# Altium schematic symbol library Schlib1.SchLib: 25 symbols
Pins are listed as number, name and electrical type; pins without a type are passive.

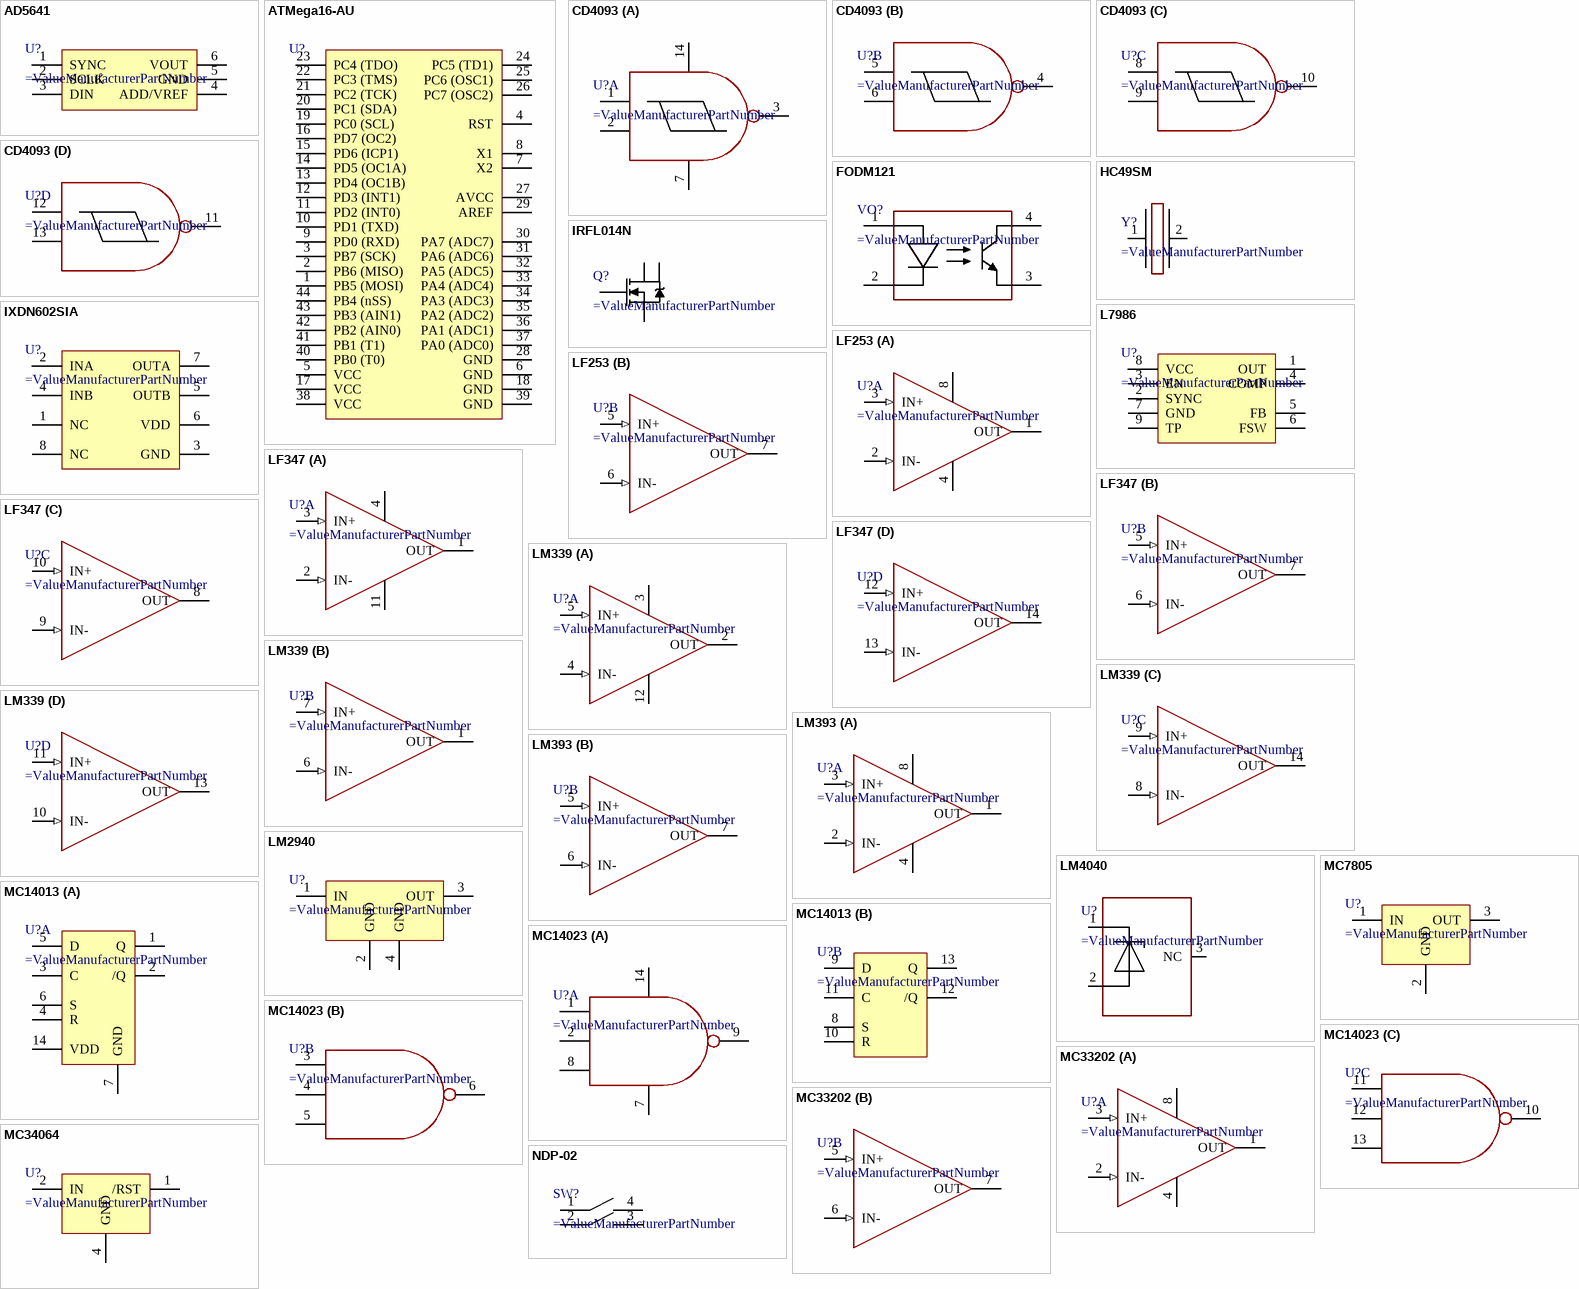
[diagram p0: symbols AD5641 to NDP-02]

## AD5641
designator U?
ValueManufacturerPartNumber: AD5641, SC70-6; PartNumber: AD5641; Package: SC70-6
footprint SC70-6 (SOT23, 6-Leads, Body 2,00x2,10mm, Pitch 0,65mm, IPC High Density)
pins: 1 SYNC, 2 SCLK, 3 DIN, 4 ADD/VREF, 5 GND, 6 VOUT

## ATMega16-AU
designator U?
ValueManufacturerPartNumber: ATMega16-AU, TQFP-44; PartNumber: ATMega16-AU; Package: TQFP-44
footprint QFP80P1200X1200X120-44N
pins: 1 PB5 (MOSI), 2 PB6 (MISO), 3 PB7 (SCK), 4 RST, 5 VCC, 6 GND, 7 X2, 8 X1, 9 PD0 (RXD), 10 PD1 (TXD), 11 PD2 (INT0), 12 PD3 (INT1), 13 PD4 (OC1B), 14 PD5 (OC1A), 15 PD6 (ICP1), 16 PD7 (OC2), 17 VCC, 18 GND, 19 PC0 (SCL), 20 PC1 (SDA), 21 PC2 (TCK), 22 PC3 (TMS), 23 PC4 (TDO), 24 PC5 (TD1), 25 PC6 (OSC1), 26 PC7 (OSC2), 27 AVCC, 28 GND, 29 AREF, 30 PA7 (ADC7), 31 PA6 (ADC6), 32 PA5 (ADC5), 33 PA4 (ADC4), 34 PA3 (ADC3), 35 PA2 (ADC2), 36 PA1 (ADC1), 37 PA0 (ADC0), 38 VCC, 39 GND, 40 PB0 (T0), 41 PB1 (T1), 42 PB2 (AIN0), 43 PB3 (AIN1), 44 PB4 (nSS)

## CD4093
designator U?
ValueManufacturerPartNumber: CD4093, SOIC-14; PartNumber: CD4093; Package: SOIC-14
footprint 14-SOIC (pitch 1.27 mm)
part A pins: 1, 2, 3, 7, 14
part B pins: 4, 5, 6
part C pins: 8, 9, 10
part D pins: 11, 12, 13

## FODM121
designator VO?
footprint FODM121 (SOP, 4-Leads, Body 3,85x4,40mm, Pitch 2,54mm, IPC High Density)
pins: 1 A, 2 C, 3 E, 4 C

## HC49SM
designator Y?
PartNumber: HC49SM-16.000MHZ-20PF; ValueManufacturerPartNumber: HC49SM-16.000MHZ-20PF, HC49SM; Package: HC49SM
footprint HC49SM
pins: 1, 2

## IRFL014N
designator Q?
footprint SOT223 (SOT223, 4-Leads, Body 6,50x7,00mm (avg), Pitch 2,30mm, IPC Medium Density)
pins: 1 G, 2 D, 3 S, 4 D

## IXDN602SIA
designator U?
PartNumber: IXDN602SIA; ValueManufacturerPartNumber: IXDN602SIA, SOIC-8; Package: SOIC-8
footprint 8-SOIC (pitch 1.27 mm)
pins: 1 NC, 2 INA, 3 GND, 4 INB, 5 OUTB, 6 VDD, 7 OUTA, 8 NC

## L7986
designator U?
PartNumber: L7986; ValueManufacturerPartNumber: L7986, HSOP-8; Package: HSOP-8
footprint HSOP8 (SOP, 8-Leads, Body 4,90x3,90mm, Pitch 1,27mm, Thermal Pad 2,95x2,75mm, IPC High Density)
pins: 1 OUT, 2 SYNC, 3 EN, 4 COMP, 5 FB, 6 FSW, 7 GND, 8 VCC, 9 TP

## LF253
designator U?
PartNumber: LF253; ValueManufacturerPartNumber: LF253, SOIC-8; Package: SOIC-8
footprint 8-SOIC (pitch 1.27 mm)
part A pins: 1 OUT (power), 2 IN- (in), 3 IN+ (in), 4 V- (power), 8 V+ (power)
part B pins: 5 IN+ (in), 6 IN- (in), 7 OUT (power)

## LF347
designator U?
PartNumber: LF247; ValueManufacturerPartNumber: LF247, SOIC-14; Package: SOIC-14
footprint 14-SOIC (pitch 1.27 mm)
part A pins: 1 OUT (power), 2 IN- (in), 3 IN+ (in), 4 V+ (power), 11 V- (power)
part B pins: 5 IN+ (in), 6 IN- (in), 7 OUT (power)
part C pins: 8 OUT (power), 9 IN- (in), 10 IN+ (in)
part D pins: 12 IN+ (in), 13 IN- (in), 14 OUT (power)

## LM339
designator U?
PartNumber: LM239; ValueManufacturerPartNumber: LM239, SOIC-14; Package: SOIC-14
footprint 14-SOIC (pitch 1.27 mm)
part A pins: 2 OUT (power), 3 V+ (power), 4 IN- (in), 5 IN+ (in), 12 V- (power)
part B pins: 1 OUT (power), 6 IN- (in), 7 IN+ (in)
part C pins: 8 IN- (in), 9 IN+ (in), 14 OUT (power)
part D pins: 10 IN- (in), 11 IN+ (in), 13 OUT (power)

## LM393
designator U?
PartNumber: LM393; ValueManufacturerPartNumber: LM393, SOIC-8; Package: SOIC-8
footprint 8-SOIC (pitch 1.27 mm)
part A pins: 1 OUT (power), 2 IN- (in), 3 IN+ (in), 4 V- (power), 8 V+ (power)
part B pins: 5 IN+ (in), 6 IN- (in), 7 OUT (power)

## LM2940
designator U?
PartNumber: LM2940; ValueManufacturerPartNumber: LM2940, SOT223; Package: SOT223
footprint SOT223 (SOT223, 4-Leads, Body 6,50x7,00mm (avg), Pitch 2,30mm, IPC Medium Density)
pins: 1 IN, 2 GND, 3 OUT, 4 GND

## LM4040
designator U?
PartNumber: LM4040; ValueManufacturerPartNumber: LM4040, SOT23-3; Package: SOT23-3
footprint SOT23
pins: 1, 2, 3 NC

## MC7805
designator U?
PartNumber: MC7805; ValueManufacturerPartNumber: MC7805, D2PAK; Package: D2PAK
footprint D2PAK
pins: 1 IN, 2 GND, 3 OUT

## MC14013
designator U?
PartNumber: MC14013; ValueManufacturerPartNumber: MC14013, SOIC-14; Package: SOIC-14
footprint 14-SOIC (pitch 1.27 mm)
part A pins: 1 Q, 2 /Q, 3 C, 4 R, 5 D, 6 S, 7 GND, 14 VDD
part B pins: 8 S, 9 D, 10 R, 11 C, 12 /Q, 13 Q

## MC14023
designator U?
PartNumber: MC14023; ValueManufacturerPartNumber: MC14023, SOIC-14; Package: SOIC-14
footprint 14-SOIC (pitch 1.27 mm)
part A pins: 1, 2, 7 (power), 8, 9, 14 (power)
part B pins: 3, 4, 5, 6
part C pins: 10, 11, 12, 13

## MC33202
designator U?
PartNumber: MC33202; ValueManufacturerPartNumber: MC33202, SOIC-8; Package: SOIC-8
footprint 8-SOIC (pitch 1.27 mm)
part A pins: 1 OUT (power), 2 IN- (in), 3 IN+ (in), 4 V- (power), 8 V+ (power)
part B pins: 5 IN+ (in), 6 IN- (in), 7 OUT (power)

## MC34064
designator U?
PartNumber: MC33064; ValueManufacturerPartNumber: MC33064, SOIC-8; Package: SOIC-8
footprint 8-SOIC (pitch 1.27 mm)
pins: 1 /RST, 2 IN, 4 GND

## NDP-02
designator SW?
PartNumber: NDP-02; ValueManufacturerPartNumber: NDP-02, DPL-02; Package: DPL-02
footprint DPL-2
pins: 1, 2, 3, 4

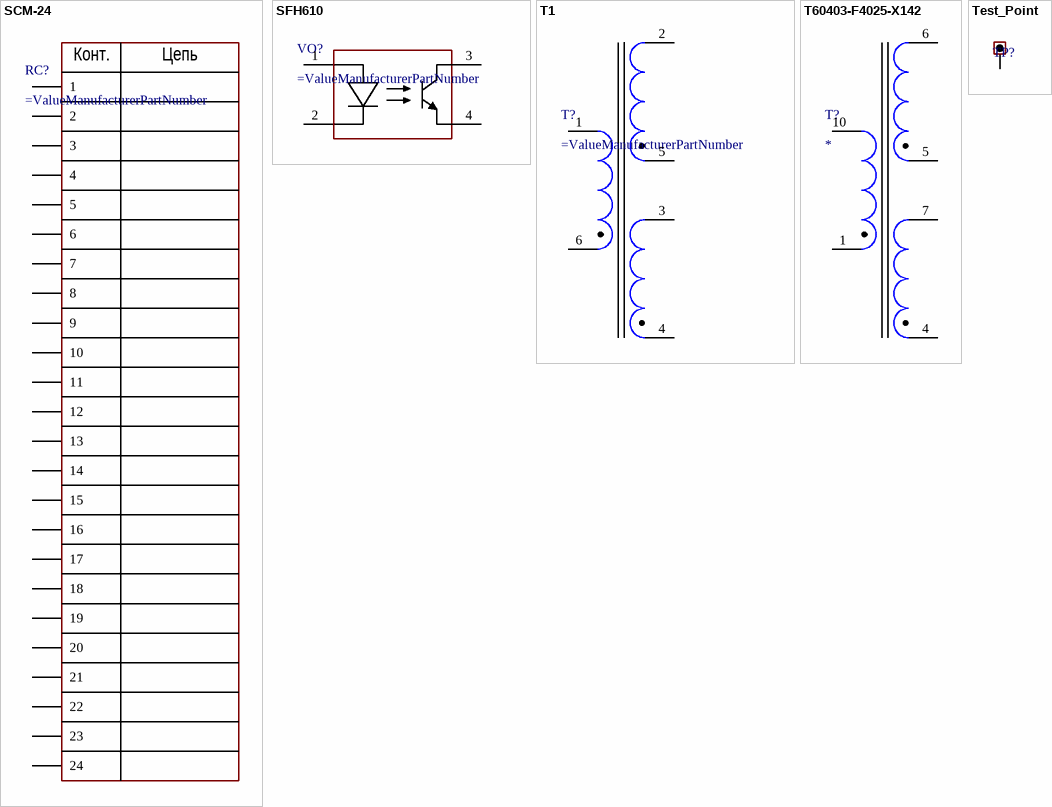
[diagram p1: symbols SCM-24 to Test_Point]

## SCM-24
designator RC?
PartNumber: DS1011-24SBSiB; ValueManufacturerPartNumber: DS1011-24SBSiB, 24 Pin; Package: 24 Pin
footprint SCM-24
pins: 1, 2, 3, 4, 5, 6, 7, 8, 9, 10, 11, 12, 13, 14, 15, 16, 17, 18, 19, 20, 21, 22, 23, 24
text: Конт.; Цепь

## SFH610
designator VO?
PartNumber: SFH610*; ValueManufacturerPartNumber: SFH610*, SMD (option 7); Package: SMD (option 7)
footprint SOP254P980X405-4L (SOP, 4-Leads, Body 4,69x6,65mm, Pitch 2,54mm, IPC High Density)
pins: 1 A, 2 C, 3 C, 4 E

## T1
designator T?
PartNumber: T1; ValueManufacturerPartNumber: T1
footprint T1
pins: 1 (power), 2 (power), 3 (power), 4 (power), 5 (power), 6 (power)

## T60403-F4025-X142
designator T?
footprint T60403-F4025-X142
pins: 1 (power), 4 (power), 5 (power), 6 (power), 7 (power), 10 (power)

## Test_Point
designator TP?  (value not drawn)  (no BOM)
footprint Test_Point
pins: 1